# Altium footprint library 31_lib.PcbLib: 49 footprints (part 4 of 4)
Each footprint in its own frame and in the unit in brackets; x right, y up, seen from the top. Pads: shape width x height; smd on the part's side, far side on the other; paste and mask are expansions set on the pad; w line width, h text height; cw(c..) or ccw(c..) is an arc to the next point about the centre after c.
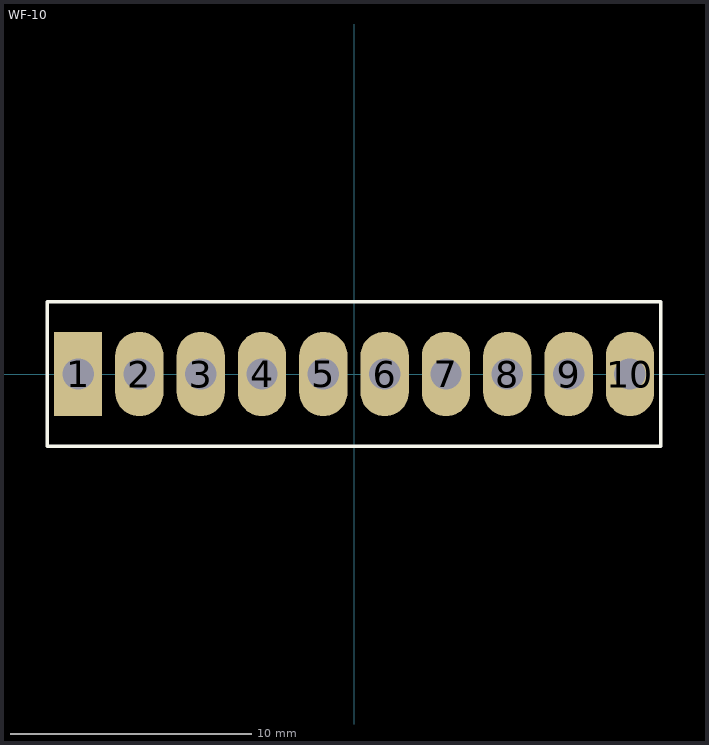
[diagram p3: the footprint, top view; thin cyan lines are the x and y axes]

## WF-10 [mm]
pads (10):
  rect 2x3.5 hole 1.3: 1(-11.43,0)
  oval 2x3.5 hole 1.3: 2(-8.89,0) 3(-6.35,0) 4(-3.81,0) 5(-1.27,0) 6(1.27,0) 7(3.81,0) 8(6.35,0) 9(8.89,0) 10(11.43,0)
Top Overlay:
  lines w0.15: -12.7,-3 -12.7,3 12.7,3 12.7,-3 -12.7,-3
3D body: height 11.4, standoff -3.4, extent 10.16,-2.9 12.7,2.9
3D body: height 11.4, standoff -3.4, extent 7.62,-2.9 10.16,2.9
3D body: height 11.4, standoff -3.4, extent 5.08,-2.9 7.62,2.9
3D body: height 11.4, standoff -3.4, extent 2.54,-2.9 5.08,2.9
3D body: height 11.4, standoff -3.4, extent -5.08,-2.9 -2.54,2.9
3D body: height 11.4, standoff -3.4, extent -7.62,-2.9 -5.08,2.9
3D body: height 11.4, standoff -3.4, extent -10.16,-2.9 -7.62,2.9
3D body: height 11.4, standoff -3.4, extent -12.7,-2.9 -10.16,2.9
3D body: height 11.4, standoff -3.4, extent -2.54,-2.9 0,2.9
3D body: height 11.4, standoff -3.4, extent 0,-2.9 2.54,2.9